# Altium schematic symbol library jlcpcb_2025_04_ferrites_extended_0201.schlib: 64 symbols (part 1 of 2)
Pins are listed as number, name and electrical type; pins without a type are passive.

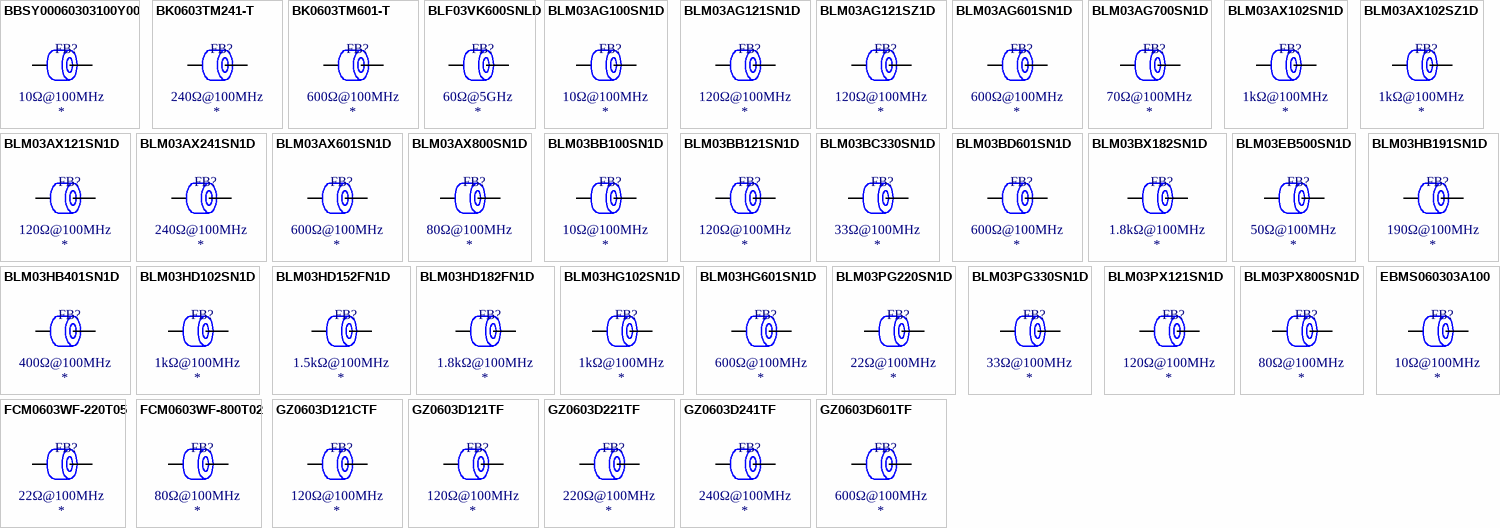
[diagram p0: symbols BBSY00060303100Y00 to GZ0603D601TF]

## BBSY00060303100Y00
designator FB?  Impedance @ Frequency: 10Ω@100MHz
Ferrite, 10Ω@100MHz, ±25%, 100mΩ, 500mA, SMD 0201; Manufacturer: Chilisin Elec; Manufacturer Part Number: BBSY00060303100Y00; Package Size: 0201; JLCPCB Basic Part: No; JLCPCB Part Number: C2847087; Supplier 1: LCSC; Category: Ferrite Beads; Supplier Part Number 1: C2847087; Tolerance: ±25%; Rated Current: 500mA; DC Resistance: 100mΩ; RoHS: Yes; ComponentLink1Description: Datasheet; ComponentLink1URL: https://wmsc.lcsc.com/wmsc/upload/file/pdf/v2/lcsc/2109081230_Chilisin-Elec-BBSY00060303100Y00_C2847087.pdf; ComponentLink2Description: JLCPCB Part URL; ComponentLink2URL: https://jlcpcb.com/partdetail/C2847087; ComponentLink3Description: LCSC Part URL; ComponentLink3URL: https://lcsc.com/product-detail/Ferrite-Beads_Chilisin-Elec-Chilisin-Elec-BBSY00060303100Y00_C2847087.html
footprint FB-0201 (0201 (0603M) Ferrite)
pins: 1, 2

## BK0603TM241-T
designator FB?  Impedance @ Frequency: 240Ω@100MHz
Ferrite, 240Ω@100MHz, ±25%, 0.38Ω, 0.3A, SMD 0201; Manufacturer: Taiyo Yuden; Manufacturer Part Number: BK0603TM241-T; Package Size: 0201; JLCPCB Basic Part: No; JLCPCB Part Number: C2661604; Supplier 1: LCSC; Category: Ferrite Beads; Supplier Part Number 1: C2661604; Tolerance: ±25%; Rated Current: 0.3A; DC Resistance: 0.38Ω; RoHS: Yes; ComponentLink1Description: Datasheet; ComponentLink1URL: https://wmsc.lcsc.com/wmsc/upload/file/pdf/v2/lcsc/2404231024_Taiyo-Yuden-BK0603TM241-T_C2661604.pdf; ComponentLink2Description: JLCPCB Part URL; ComponentLink2URL: https://jlcpcb.com/partdetail/C2661604; ComponentLink3Description: LCSC Part URL; ComponentLink3URL: https://lcsc.com/product-detail/Ferrite-Beads_Taiyo-Yuden-Taiyo-Yuden-BK0603TM241-T_C2661604.html
footprint FB-0201 (0201 (0603M) Ferrite)
pins: 1, 2

## BK0603TM601-T
designator FB?  Impedance @ Frequency: 600Ω@100MHz
Ferrite, 600Ω@100MHz, ±25%, 0.85Ω, 0.25A, SMD 0201; Manufacturer: Taiyo Yuden; Manufacturer Part Number: BK0603TM601-T; Package Size: 0201; JLCPCB Basic Part: No; JLCPCB Part Number: C2661793; Supplier 1: LCSC; Category: Ferrite Beads; Supplier Part Number 1: C2661793; Tolerance: ±25%; Rated Current: 0.25A; DC Resistance: 0.85Ω; RoHS: Yes; ComponentLink1Description: Datasheet; ComponentLink1URL: https://wmsc.lcsc.com/wmsc/upload/file/pdf/v2/lcsc/2404231024_Taiyo-Yuden-BK0603TM601-T_C2661793.pdf; ComponentLink2Description: JLCPCB Part URL; ComponentLink2URL: https://jlcpcb.com/partdetail/C2661793; ComponentLink3Description: LCSC Part URL; ComponentLink3URL: https://lcsc.com/product-detail/Ferrite-Beads_Taiyo-Yuden-Taiyo-Yuden-BK0603TM601-T_C2661793.html
footprint FB-0201 (0201 (0603M) Ferrite)
pins: 1, 2

## BLF03VK600SNLD
designator FB?  Impedance @ Frequency: 60Ω@5GHz
Ferrite, 60Ω@5GHz, ±40%, 65mΩ, 1.2A, SMD 0201; Manufacturer: Murata Electronics; Manufacturer Part Number: BLF03VK600SNLD; Package Size: 0201; JLCPCB Basic Part: No; JLCPCB Part Number: C1857815; Supplier 1: LCSC; Category: Ferrite Beads; Supplier Part Number 1: C1857815; Tolerance: ±40%; Rated Current: 1.2A; DC Resistance: 65mΩ; RoHS: Yes; ComponentLink1Description: Datasheet; ComponentLink1URL: https://wmsc.lcsc.com/wmsc/upload/file/pdf/v2/lcsc/2201100530_Murata-Electronics-BLF03VK600SNLD_C1857815.pdf; ComponentLink2Description: JLCPCB Part URL; ComponentLink2URL: https://jlcpcb.com/partdetail/C1857815; ComponentLink3Description: LCSC Part URL; ComponentLink3URL: https://lcsc.com/product-detail/Ferrite-Beads_Murata-Electronics-Murata-Electronics-BLF03VK600SNLD_C1857815.html
footprint FB-0201 (0201 (0603M) Ferrite)
pins: 1, 2

## BLM03AG100SN1D
designator FB?  Impedance @ Frequency: 10Ω@100MHz
Ferrite, 10Ω@100MHz, 100mΩ, 500mA, SMD 0201; Manufacturer: Murata Electronics; Manufacturer Part Number: BLM03AG100SN1D; Package Size: 0201; JLCPCB Basic Part: No; JLCPCB Part Number: C160962; Supplier 1: LCSC; Category: Ferrite Beads; Supplier Part Number 1: C160962; Rated Current: 500mA; DC Resistance: 100mΩ; RoHS: Yes; ComponentLink1Description: Datasheet; ComponentLink1URL: https://wmsc.lcsc.com/wmsc/upload/file/pdf/v2/lcsc/1811081521_Murata-Electronics-BLM03AG100SN1D_C160962.pdf; ComponentLink2Description: JLCPCB Part URL; ComponentLink2URL: https://jlcpcb.com/partdetail/C160962; ComponentLink3Description: LCSC Part URL; ComponentLink3URL: https://lcsc.com/product-detail/Ferrite-Beads_Murata-Electronics-Murata-Electronics-BLM03AG100SN1D_C160962.html
pins: 1, 2

## BLM03AG121SN1D
designator FB?  Impedance @ Frequency: 120Ω@100MHz
Ferrite, 120Ω@100MHz, ±25%, 500mΩ, 200mA, SMD 0201; Manufacturer: Murata Electronics; Manufacturer Part Number: BLM03AG121SN1D; Package Size: 0201; JLCPCB Basic Part: No; JLCPCB Part Number: C97850; Supplier 1: LCSC; Category: Ferrite Beads; Supplier Part Number 1: C97850; Tolerance: ±25%; Rated Current: 200mA; DC Resistance: 500mΩ; RoHS: Yes; ComponentLink1Description: Datasheet; ComponentLink1URL: https://wmsc.lcsc.com/wmsc/upload/file/pdf/v2/lcsc/1811081516_Murata-Electronics-BLM03AG121SN1D_C97850.pdf; ComponentLink2Description: JLCPCB Part URL; ComponentLink2URL: https://jlcpcb.com/partdetail/C97850; ComponentLink3Description: LCSC Part URL; ComponentLink3URL: https://lcsc.com/product-detail/Ferrite-Beads_Murata-Electronics-Murata-Electronics-BLM03AG121SN1D_C97850.html
footprint FB-0201 (0201 (0603M) Ferrite)
pins: 1, 2

## BLM03AG121SZ1D
designator FB?  Impedance @ Frequency: 120Ω@100MHz
Ferrite, 120Ω@100MHz, ±25%, 500mΩ, 200mA, SMD 0201; Manufacturer: Murata Electronics; Manufacturer Part Number: BLM03AG121SZ1D; Package Size: 0201; JLCPCB Basic Part: No; JLCPCB Part Number: C883543; Supplier 1: LCSC; Category: Ferrite Beads; Supplier Part Number 1: C883543; Tolerance: ±25%; Rated Current: 200mA; DC Resistance: 500mΩ; RoHS: Yes; ComponentLink1Description: Datasheet; ComponentLink1URL: https://wmsc.lcsc.com/wmsc/upload/file/pdf/v2/lcsc/2201242130_Murata-Electronics-BLM03AG121SZ1D_C883543.pdf; ComponentLink2Description: JLCPCB Part URL; ComponentLink2URL: https://jlcpcb.com/partdetail/C883543; ComponentLink3Description: LCSC Part URL; ComponentLink3URL: https://lcsc.com/product-detail/Ferrite-Beads_Murata-Electronics-Murata-Electronics-BLM03AG121SZ1D_C883543.html
footprint FB-0201 (0201 (0603M) Ferrite)
pins: 1, 2

## BLM03AG601SN1D
designator FB?  Impedance @ Frequency: 600Ω@100MHz
Ferrite, 600Ω@100MHz, ±25%, 1.5Ω, 100mA, SMD 0201; Manufacturer: Murata Electronics; Manufacturer Part Number: BLM03AG601SN1D; Package Size: 0201; JLCPCB Basic Part: No; JLCPCB Part Number: C85811; Supplier 1: LCSC; Category: Ferrite Beads; Supplier Part Number 1: C85811; Tolerance: ±25%; Rated Current: 100mA; DC Resistance: 1.5Ω; RoHS: Yes; ComponentLink1Description: Datasheet; ComponentLink1URL: https://wmsc.lcsc.com/wmsc/upload/file/pdf/v2/lcsc/2304140030_Murata-Electronics-BLM03AG601SN1D_C85811.pdf; ComponentLink2Description: JLCPCB Part URL; ComponentLink2URL: https://jlcpcb.com/partdetail/C85811; ComponentLink3Description: LCSC Part URL; ComponentLink3URL: https://lcsc.com/product-detail/Ferrite-Beads_Murata-Electronics-Murata-Electronics-BLM03AG601SN1D_C85811.html
footprint FB-0201 (0201 (0603M) Ferrite)
pins: 1, 2

## BLM03AG700SN1D
designator FB?  Impedance @ Frequency: 70Ω@100MHz
Ferrite, 70Ω@100MHz, 400mΩ, 200mA, SMD 0201; Manufacturer: Murata Electronics; Manufacturer Part Number: BLM03AG700SN1D; Package Size: 0201; JLCPCB Basic Part: No; JLCPCB Part Number: C333977; Supplier 1: LCSC; Category: Ferrite Beads; Supplier Part Number 1: C333977; Rated Current: 200mA; DC Resistance: 400mΩ; RoHS: Yes; ComponentLink1Description: Datasheet; ComponentLink1URL: https://wmsc.lcsc.com/wmsc/upload/file/pdf/v2/lcsc/1912111437_Murata-Electronics-BLM03AG700SN1D_C333977.pdf; ComponentLink2Description: JLCPCB Part URL; ComponentLink2URL: https://jlcpcb.com/partdetail/C333977; ComponentLink3Description: LCSC Part URL; ComponentLink3URL: https://lcsc.com/product-detail/Ferrite-Beads_Murata-Electronics-Murata-Electronics-BLM03AG700SN1D_C333977.html
pins: 1, 2

## BLM03AX102SN1D
designator FB?  Impedance @ Frequency: 1kΩ@100MHz
Ferrite, 1kΩ@100MHz, ±25%, 1.25Ω, 200mA, SMD 0201; Manufacturer: Murata Electronics; Manufacturer Part Number: BLM03AX102SN1D; Package Size: 0201; JLCPCB Basic Part: No; JLCPCB Part Number: C88951; Supplier 1: LCSC; Category: Ferrite Beads; Supplier Part Number 1: C88951; Tolerance: ±25%; Rated Current: 200mA; DC Resistance: 1.25Ω; RoHS: Yes; ComponentLink1Description: Datasheet; ComponentLink1URL: https://wmsc.lcsc.com/wmsc/upload/file/pdf/v2/lcsc/2304140030_Murata-Electronics-BLM03AX102SN1D_C88951.pdf; ComponentLink2Description: JLCPCB Part URL; ComponentLink2URL: https://jlcpcb.com/partdetail/C88951; ComponentLink3Description: LCSC Part URL; ComponentLink3URL: https://lcsc.com/product-detail/Ferrite-Beads_Murata-Electronics-Murata-Electronics-BLM03AX102SN1D_C88951.html
footprint FB-0201 (0201 (0603M) Ferrite)
pins: 1, 2

## BLM03AX102SZ1D
designator FB?  Impedance @ Frequency: 1kΩ@100MHz
Ferrite, 1kΩ@100MHz, ±25%, 1.25Ω, 200mA, SMD 0201; Manufacturer: Murata Electronics; Manufacturer Part Number: BLM03AX102SZ1D; Package Size: 0201; JLCPCB Basic Part: No; JLCPCB Part Number: C2661986; Supplier 1: LCSC; Category: Ferrite Beads; Supplier Part Number 1: C2661986; Tolerance: ±25%; Rated Current: 200mA; DC Resistance: 1.25Ω; RoHS: Yes; ComponentLink1Description: Datasheet; ComponentLink1URL: https://wmsc.lcsc.com/wmsc/upload/file/pdf/v2/lcsc/2202131730_Murata-Electronics-BLM03AX102SZ1D_C2661986.pdf; ComponentLink2Description: JLCPCB Part URL; ComponentLink2URL: https://jlcpcb.com/partdetail/C2661986; ComponentLink3Description: LCSC Part URL; ComponentLink3URL: https://lcsc.com/product-detail/Ferrite-Beads_Murata-Electronics-Murata-Electronics-BLM03AX102SZ1D_C2661986.html
footprint FB-0201 (0201 (0603M) Ferrite)
pins: 1, 2

## BLM03AX121SN1D
designator FB?  Impedance @ Frequency: 120Ω@100MHz
Ferrite, 120Ω@100MHz, ±25%, 230mΩ, 450mA, SMD 0201; Manufacturer: Murata Electronics; Manufacturer Part Number: BLM03AX121SN1D; Package Size: 0201; JLCPCB Basic Part: No; JLCPCB Part Number: C83991; Supplier 1: LCSC; Category: Ferrite Beads; Supplier Part Number 1: C83991; Tolerance: ±25%; Rated Current: 450mA; DC Resistance: 230mΩ; RoHS: Yes; ComponentLink1Description: Datasheet; ComponentLink1URL: https://wmsc.lcsc.com/wmsc/upload/file/pdf/v2/lcsc/2304140030_Murata-Electronics-BLM03AX121SN1D_C83991.pdf; ComponentLink2Description: JLCPCB Part URL; ComponentLink2URL: https://jlcpcb.com/partdetail/C83991; ComponentLink3Description: LCSC Part URL; ComponentLink3URL: https://lcsc.com/product-detail/Ferrite-Beads_Murata-Electronics-Murata-Electronics-BLM03AX121SN1D_C83991.html
footprint FB-0201 (0201 (0603M) Ferrite)
pins: 1, 2

## BLM03AX241SN1D
designator FB?  Impedance @ Frequency: 240Ω@100MHz
Ferrite, 240Ω@100MHz, ±25%, 380mΩ, 350mA, SMD 0201; Manufacturer: Murata Electronics; Manufacturer Part Number: BLM03AX241SN1D; Package Size: 0201; JLCPCB Basic Part: No; JLCPCB Part Number: C88952; Supplier 1: LCSC; Category: Ferrite Beads; Supplier Part Number 1: C88952; Tolerance: ±25%; Rated Current: 350mA; DC Resistance: 380mΩ; RoHS: Yes; ComponentLink1Description: Datasheet; ComponentLink1URL: https://wmsc.lcsc.com/wmsc/upload/file/pdf/v2/lcsc/2304140030_Murata-Electronics-BLM03AX241SN1D_C88952.pdf; ComponentLink2Description: JLCPCB Part URL; ComponentLink2URL: https://jlcpcb.com/partdetail/C88952; ComponentLink3Description: LCSC Part URL; ComponentLink3URL: https://lcsc.com/product-detail/Ferrite-Beads_Murata-Electronics-Murata-Electronics-BLM03AX241SN1D_C88952.html
footprint FB-0201 (0201 (0603M) Ferrite)
pins: 1, 2

## BLM03AX601SN1D
designator FB?  Impedance @ Frequency: 600Ω@100MHz
Ferrite, 600Ω@100MHz, ±25%, 850mΩ, 250mA, SMD 0201; Manufacturer: Murata Electronics; Manufacturer Part Number: BLM03AX601SN1D; Package Size: 0201; JLCPCB Basic Part: No; JLCPCB Part Number: C88953; Supplier 1: LCSC; Category: Ferrite Beads; Supplier Part Number 1: C88953; Tolerance: ±25%; Rated Current: 250mA; DC Resistance: 850mΩ; RoHS: Yes; ComponentLink1Description: Datasheet; ComponentLink1URL: https://wmsc.lcsc.com/wmsc/upload/file/pdf/v2/lcsc/2304140030_Murata-Electronics-BLM03AX601SN1D_C88953.pdf; ComponentLink2Description: JLCPCB Part URL; ComponentLink2URL: https://jlcpcb.com/partdetail/C88953; ComponentLink3Description: LCSC Part URL; ComponentLink3URL: https://lcsc.com/product-detail/Ferrite-Beads_Murata-Electronics-Murata-Electronics-BLM03AX601SN1D_C88953.html
footprint FB-0201 (0201 (0603M) Ferrite)
pins: 1, 2

## BLM03AX800SN1D
designator FB?  Impedance @ Frequency: 80Ω@100MHz
Ferrite, 80Ω@100MHz, ±25%, 180mΩ, 500mA, SMD 0201; Manufacturer: Murata Electronics; Manufacturer Part Number: BLM03AX800SN1D; Package Size: 0201; JLCPCB Basic Part: No; JLCPCB Part Number: C521135; Supplier 1: LCSC; Category: Ferrite Beads; Supplier Part Number 1: C521135; Tolerance: ±25%; Rated Current: 500mA; DC Resistance: 180mΩ; RoHS: Yes; ComponentLink1Description: Datasheet; ComponentLink1URL: https://wmsc.lcsc.com/wmsc/upload/file/pdf/v2/lcsc/2304140030_Murata-Electronics-BLM03AX800SN1D_C521135.pdf; ComponentLink2Description: JLCPCB Part URL; ComponentLink2URL: https://jlcpcb.com/partdetail/C521135; ComponentLink3Description: LCSC Part URL; ComponentLink3URL: https://lcsc.com/product-detail/Ferrite-Beads_Murata-Electronics-Murata-Electronics-BLM03AX800SN1D_C521135.html
footprint FB-0201 (0201 (0603M) Ferrite)
pins: 1, 2

## BLM03BB100SN1D
designator FB?  Impedance @ Frequency: 10Ω@100MHz
Ferrite, 10Ω@100MHz, ±25%, 400mΩ, 300mA, SMD 0201; Manufacturer: Murata Electronics; Manufacturer Part Number: BLM03BB100SN1D; Package Size: 0201; JLCPCB Basic Part: No; JLCPCB Part Number: C160963; Supplier 1: LCSC; Category: Ferrite Beads; Supplier Part Number 1: C160963; Tolerance: ±25%; Rated Current: 300mA; DC Resistance: 400mΩ; RoHS: Yes; ComponentLink1Description: Datasheet; ComponentLink1URL: https://wmsc.lcsc.com/wmsc/upload/file/pdf/v2/lcsc/1811081543_Murata-Electronics-BLM03BB100SN1D_C160963.pdf; ComponentLink2Description: JLCPCB Part URL; ComponentLink2URL: https://jlcpcb.com/partdetail/C160963; ComponentLink3Description: LCSC Part URL; ComponentLink3URL: https://lcsc.com/product-detail/Ferrite-Beads_Murata-Electronics-Murata-Electronics-BLM03BB100SN1D_C160963.html
footprint FB-0201 (0201 (0603M) Ferrite)
pins: 1, 2

## BLM03BB121SN1D
designator FB?  Impedance @ Frequency: 120Ω@100MHz
Ferrite, 120Ω@100MHz, ±25%, 1.5Ω, 100mA, SMD 0201; Manufacturer: Murata Electronics; Manufacturer Part Number: BLM03BB121SN1D; Package Size: 0201; JLCPCB Basic Part: No; JLCPCB Part Number: C160964; Supplier 1: LCSC; Category: Ferrite Beads; Supplier Part Number 1: C160964; Tolerance: ±25%; Rated Current: 100mA; DC Resistance: 1.5Ω; RoHS: Yes; ComponentLink1Description: Datasheet; ComponentLink1URL: https://wmsc.lcsc.com/wmsc/upload/file/pdf/v2/lcsc/1811081524_Murata-Electronics-BLM03BB121SN1D_C160964.pdf; ComponentLink2Description: JLCPCB Part URL; ComponentLink2URL: https://jlcpcb.com/partdetail/C160964; ComponentLink3Description: LCSC Part URL; ComponentLink3URL: https://lcsc.com/product-detail/Ferrite-Beads_Murata-Electronics-Murata-Electronics-BLM03BB121SN1D_C160964.html
footprint FB-0201 (0201 (0603M) Ferrite)
pins: 1, 2

## BLM03BC330SN1D
designator FB?  Impedance @ Frequency: 33Ω@100MHz
Ferrite, 33Ω@100MHz, ±25%, 850mΩ, 150mA, SMD 0201; Manufacturer: Murata Electronics; Manufacturer Part Number: BLM03BC330SN1D; Package Size: 0201; JLCPCB Basic Part: No; JLCPCB Part Number: C701281; Supplier 1: LCSC; Category: Ferrite Beads; Supplier Part Number 1: C701281; Tolerance: ±25%; Rated Current: 150mA; DC Resistance: 850mΩ; RoHS: Yes; ComponentLink1Description: Datasheet; ComponentLink1URL: https://wmsc.lcsc.com/wmsc/upload/file/pdf/v2/lcsc/2304140030_Murata-Electronics-BLM03BC330SN1D_C701281.pdf; ComponentLink2Description: JLCPCB Part URL; ComponentLink2URL: https://jlcpcb.com/partdetail/C701281; ComponentLink3Description: LCSC Part URL; ComponentLink3URL: https://lcsc.com/product-detail/Ferrite-Beads_Murata-Electronics-Murata-Electronics-BLM03BC330SN1D_C701281.html
footprint FB-0201 (0201 (0603M) Ferrite)
pins: 1, 2

## BLM03BD601SN1D
designator FB?  Impedance @ Frequency: 600Ω@100MHz
Ferrite, 600Ω@100MHz, ±25%, 1.7Ω, 200mA, SMD 0201; Manufacturer: Murata Electronics; Manufacturer Part Number: BLM03BD601SN1D; Package Size: 0201; JLCPCB Basic Part: No; JLCPCB Part Number: C88956; Supplier 1: LCSC; Category: Ferrite Beads; Supplier Part Number 1: C88956; Tolerance: ±25%; Rated Current: 200mA; DC Resistance: 1.7Ω; RoHS: Yes; ComponentLink1Description: Datasheet; ComponentLink1URL: https://wmsc.lcsc.com/wmsc/upload/file/pdf/v2/lcsc/2304140030_Murata-Electronics-BLM03BD601SN1D_C88956.pdf; ComponentLink2Description: JLCPCB Part URL; ComponentLink2URL: https://jlcpcb.com/partdetail/C88956; ComponentLink3Description: LCSC Part URL; ComponentLink3URL: https://lcsc.com/product-detail/Ferrite-Beads_Murata-Electronics-Murata-Electronics-BLM03BD601SN1D_C88956.html
footprint FB-0201 (0201 (0603M) Ferrite)
pins: 1, 2

## BLM03BX182SN1D
designator FB?  Impedance @ Frequency: 1.8kΩ@100MHz
Ferrite, 1.8kΩ@100MHz, ±25%, 2.5Ω, 140mA, SMD 0201; Manufacturer: Murata Electronics; Manufacturer Part Number: BLM03BX182SN1D; Package Size: 0201; JLCPCB Basic Part: No; JLCPCB Part Number: C710322; Supplier 1: LCSC; Category: Ferrite Beads; Supplier Part Number 1: C710322; Tolerance: ±25%; Rated Current: 140mA; DC Resistance: 2.5Ω; RoHS: Yes; ComponentLink1Description: Datasheet; ComponentLink1URL: https://wmsc.lcsc.com/wmsc/upload/file/pdf/v2/lcsc/2201131100_Murata-Electronics-BLM03BX182SN1D_C710322.pdf; ComponentLink2Description: JLCPCB Part URL; ComponentLink2URL: https://jlcpcb.com/partdetail/C710322; ComponentLink3Description: LCSC Part URL; ComponentLink3URL: https://lcsc.com/product-detail/Ferrite-Beads_Murata-Electronics-Murata-Electronics-BLM03BX182SN1D_C710322.html
footprint FB-0201 (0201 (0603M) Ferrite)
pins: 1, 2

## BLM03EB500SN1D
designator FB?  Impedance @ Frequency: 50Ω@100MHz
Ferrite, 50Ω@100MHz, ±25%, 580mΩ, 400mA, SMD 0201; Manufacturer: Murata Electronics; Manufacturer Part Number: BLM03EB500SN1D; Package Size: 0201; JLCPCB Basic Part: No; JLCPCB Part Number: C88957; Supplier 1: LCSC; Category: Ferrite Beads; Supplier Part Number 1: C88957; Tolerance: ±25%; Rated Current: 400mA; DC Resistance: 580mΩ; RoHS: Yes; ComponentLink1Description: Datasheet; ComponentLink1URL: https://wmsc.lcsc.com/wmsc/upload/file/pdf/v2/lcsc/2304140030_Murata-Electronics-BLM03EB500SN1D_C88957.pdf; ComponentLink2Description: JLCPCB Part URL; ComponentLink2URL: https://jlcpcb.com/partdetail/C88957; ComponentLink3Description: LCSC Part URL; ComponentLink3URL: https://lcsc.com/product-detail/Ferrite-Beads_Murata-Electronics-Murata-Electronics-BLM03EB500SN1D_C88957.html
footprint FB-0201 (0201 (0603M) Ferrite)
pins: 1, 2

## BLM03HB191SN1D
designator FB?  Impedance @ Frequency: 190Ω@100MHz
Ferrite, 190Ω@100MHz, 2Ω, SMD 0201; Manufacturer: Murata Electronics; Manufacturer Part Number: BLM03HB191SN1D; Package Size: 0201; JLCPCB Basic Part: No; JLCPCB Part Number: C703142; Supplier 1: LCSC; Category: Ferrite Beads; Supplier Part Number 1: C703142; DC Resistance: 2Ω; RoHS: Yes; ComponentLink1Description: Datasheet; ComponentLink1URL: https://wmsc.lcsc.com/wmsc/upload/file/pdf/v2/lcsc/2308111441_Murata-Electronics-BLM03HB191SN1D_C703142.pdf; ComponentLink2Description: JLCPCB Part URL; ComponentLink2URL: https://jlcpcb.com/partdetail/C703142; ComponentLink3Description: LCSC Part URL; ComponentLink3URL: https://lcsc.com/product-detail/Ferrite-Beads_Murata-Electronics-Murata-Electronics-BLM03HB191SN1D_C703142.html
pins: 1, 2

## BLM03HB401SN1D
designator FB?  Impedance @ Frequency: 400Ω@100MHz
Ferrite, 400Ω@100MHz, ±25%, 2.8Ω, 125mA, SMD 0201; Manufacturer: Murata Electronics; Manufacturer Part Number: BLM03HB401SN1D; Package Size: 0201; JLCPCB Basic Part: No; JLCPCB Part Number: C2988755; Supplier 1: LCSC; Category: Ferrite Beads; Supplier Part Number 1: C2988755; Tolerance: ±25%; Rated Current: 125mA; DC Resistance: 2.8Ω; RoHS: Yes; ComponentLink1Description: Datasheet; ComponentLink1URL: https://wmsc.lcsc.com/wmsc/upload/file/pdf/v2/lcsc/2204211115_Murata-Electronics-BLM03HB401SN1D_C2988755.pdf; ComponentLink2Description: JLCPCB Part URL; ComponentLink2URL: https://jlcpcb.com/partdetail/C2988755; ComponentLink3Description: LCSC Part URL; ComponentLink3URL: https://lcsc.com/product-detail/Ferrite-Beads_Murata-Electronics-Murata-Electronics-BLM03HB401SN1D_C2988755.html
footprint FB-0201 (0201 (0603M) Ferrite)
pins: 1, 2

## BLM03HD102SN1D
designator FB?  Impedance @ Frequency: 1kΩ@100MHz
Ferrite, 1kΩ@100MHz, ±25%, 2.9Ω, 120mA, SMD 0201; Manufacturer: Murata Electronics; Manufacturer Part Number: BLM03HD102SN1D; Package Size: 0201; JLCPCB Basic Part: No; JLCPCB Part Number: C88958; Supplier 1: LCSC; Category: Ferrite Beads; Supplier Part Number 1: C88958; Tolerance: ±25%; Rated Current: 120mA; DC Resistance: 2.9Ω; RoHS: Yes; ComponentLink1Description: Datasheet; ComponentLink1URL: https://wmsc.lcsc.com/wmsc/upload/file/pdf/v2/lcsc/2304140030_Murata-Electronics-BLM03HD102SN1D_C88958.pdf; ComponentLink2Description: JLCPCB Part URL; ComponentLink2URL: https://jlcpcb.com/partdetail/C88958; ComponentLink3Description: LCSC Part URL; ComponentLink3URL: https://lcsc.com/product-detail/Ferrite-Beads_Murata-Electronics-Murata-Electronics-BLM03HD102SN1D_C88958.html
footprint FB-0201 (0201 (0603M) Ferrite)
pins: 1, 2

## BLM03HD152FN1D
designator FB?  Impedance @ Frequency: 1.5kΩ@100MHz
Ferrite, 1.5kΩ@100MHz, ±25%, 3.1Ω, 120mA, SMD 0201; Manufacturer: Murata Electronics; Manufacturer Part Number: BLM03HD152FN1D; Package Size: 0201; JLCPCB Basic Part: No; JLCPCB Part Number: C2895361; Supplier 1: LCSC; Category: Ferrite Beads; Supplier Part Number 1: C2895361; Tolerance: ±25%; Rated Current: 120mA; DC Resistance: 3.1Ω; RoHS: Yes; ComponentLink1Description: Datasheet; ComponentLink1URL: https://wmsc.lcsc.com/wmsc/upload/file/pdf/v2/lcsc/2109101930_Murata-Electronics-BLM03HD152FN1D_C2895361.pdf; ComponentLink2Description: JLCPCB Part URL; ComponentLink2URL: https://jlcpcb.com/partdetail/C2895361; ComponentLink3Description: LCSC Part URL; ComponentLink3URL: https://lcsc.com/product-detail/Ferrite-Beads_Murata-Electronics-Murata-Electronics-BLM03HD152FN1D_C2895361.html
footprint FB-0201 (0201 (0603M) Ferrite)
pins: 1, 2

## BLM03HD182FN1D
designator FB?  Impedance @ Frequency: 1.8kΩ@100MHz
Ferrite, 1.8kΩ@100MHz, ±25%, 3.8Ω, 100mA, SMD 0201; Manufacturer: Murata Electronics; Manufacturer Part Number: BLM03HD182FN1D; Package Size: 0201; JLCPCB Basic Part: No; JLCPCB Part Number: C560061; Supplier 1: LCSC; Category: Ferrite Beads; Supplier Part Number 1: C560061; Tolerance: ±25%; Rated Current: 100mA; DC Resistance: 3.8Ω; RoHS: Yes; ComponentLink1Description: Datasheet; ComponentLink1URL: https://wmsc.lcsc.com/wmsc/upload/file/pdf/v2/lcsc/2304140030_Murata-Electronics-BLM03HD182FN1D_C560061.pdf; ComponentLink2Description: JLCPCB Part URL; ComponentLink2URL: https://jlcpcb.com/partdetail/C560061; ComponentLink3Description: LCSC Part URL; ComponentLink3URL: https://lcsc.com/product-detail/Ferrite-Beads_Murata-Electronics-Murata-Electronics-BLM03HD182FN1D_C560061.html
footprint FB-0201 (0201 (0603M) Ferrite)
pins: 1, 2

## BLM03HG102SN1D
designator FB?  Impedance @ Frequency: 1kΩ@100MHz
Ferrite, 1kΩ@100MHz, ±25%, 2.6Ω, 125mA, SMD 0201; Manufacturer: Murata Electronics; Manufacturer Part Number: BLM03HG102SN1D; Package Size: 0201; JLCPCB Basic Part: No; JLCPCB Part Number: C160965; Supplier 1: LCSC; Category: Ferrite Beads; Supplier Part Number 1: C160965; Tolerance: ±25%; Rated Current: 125mA; DC Resistance: 2.6Ω; RoHS: Yes; ComponentLink1Description: Datasheet; ComponentLink1URL: https://wmsc.lcsc.com/wmsc/upload/file/pdf/v2/lcsc/2304140030_Murata-Electronics-BLM03HG102SN1D_C160965.pdf; ComponentLink2Description: JLCPCB Part URL; ComponentLink2URL: https://jlcpcb.com/partdetail/C160965; ComponentLink3Description: LCSC Part URL; ComponentLink3URL: https://lcsc.com/product-detail/Ferrite-Beads_Murata-Electronics-Murata-Electronics-BLM03HG102SN1D_C160965.html
footprint FB-0201 (0201 (0603M) Ferrite)
pins: 1, 2

## BLM03HG601SN1D
designator FB?  Impedance @ Frequency: 600Ω@100MHz
Ferrite, 600Ω@100MHz, ±25%, 1.6Ω, 150mA, SMD 0201; Manufacturer: Murata Electronics; Manufacturer Part Number: BLM03HG601SN1D; Package Size: 0201; JLCPCB Basic Part: No; JLCPCB Part Number: C88960; Supplier 1: LCSC; Category: Ferrite Beads; Supplier Part Number 1: C88960; Tolerance: ±25%; Rated Current: 150mA; DC Resistance: 1.6Ω; RoHS: Yes; ComponentLink1Description: Datasheet; ComponentLink1URL: https://wmsc.lcsc.com/wmsc/upload/file/pdf/v2/lcsc/2304140030_Murata-Electronics-BLM03HG601SN1D_C88960.pdf; ComponentLink2Description: JLCPCB Part URL; ComponentLink2URL: https://jlcpcb.com/partdetail/C88960; ComponentLink3Description: LCSC Part URL; ComponentLink3URL: https://lcsc.com/product-detail/Ferrite-Beads_Murata-Electronics-Murata-Electronics-BLM03HG601SN1D_C88960.html
footprint FB-0201 (0201 (0603M) Ferrite)
pins: 1, 2

## BLM03PG220SN1D
designator FB?  Impedance @ Frequency: 22Ω@100MHz
Ferrite, 22Ω@100MHz, ±25%, 65mΩ, 900mA, SMD 0201; Manufacturer: Murata Electronics; Manufacturer Part Number: BLM03PG220SN1D; Package Size: 0201; JLCPCB Basic Part: No; JLCPCB Part Number: C710324; Supplier 1: LCSC; Category: Ferrite Beads; Supplier Part Number 1: C710324; Tolerance: ±25%; Rated Current: 900mA; DC Resistance: 65mΩ; RoHS: Yes; ComponentLink1Description: Datasheet; ComponentLink1URL: https://wmsc.lcsc.com/wmsc/upload/file/pdf/v2/lcsc/2304140030_Murata-Electronics-BLM03PG220SN1D_C710324.pdf; ComponentLink2Description: JLCPCB Part URL; ComponentLink2URL: https://jlcpcb.com/partdetail/C710324; ComponentLink3Description: LCSC Part URL; ComponentLink3URL: https://lcsc.com/product-detail/Ferrite-Beads_Murata-Electronics-Murata-Electronics-BLM03PG220SN1D_C710324.html
footprint FB-0201 (0201 (0603M) Ferrite)
pins: 1, 2

## BLM03PG330SN1D
designator FB?  Impedance @ Frequency: 33Ω@100MHz
Ferrite, 33Ω@100MHz, ±25%, 90mΩ, 750mA, SMD 0201; Manufacturer: Murata Electronics; Manufacturer Part Number: BLM03PG330SN1D; Package Size: 0201; JLCPCB Basic Part: No; JLCPCB Part Number: C160966; Supplier 1: LCSC; Category: Ferrite Beads; Supplier Part Number 1: C160966; Tolerance: ±25%; Rated Current: 750mA; DC Resistance: 90mΩ; RoHS: Yes; ComponentLink1Description: Datasheet; ComponentLink1URL: https://wmsc.lcsc.com/wmsc/upload/file/pdf/v2/lcsc/1811081532_Murata-Electronics-BLM03PG330SN1D_C160966.pdf; ComponentLink2Description: JLCPCB Part URL; ComponentLink2URL: https://jlcpcb.com/partdetail/C160966; ComponentLink3Description: LCSC Part URL; ComponentLink3URL: https://lcsc.com/product-detail/Ferrite-Beads_Murata-Electronics-Murata-Electronics-BLM03PG330SN1D_C160966.html
footprint FB-0201 (0201 (0603M) Ferrite)
pins: 1, 2

## BLM03PX121SN1D
designator FB?  Impedance @ Frequency: 120Ω@100MHz
Ferrite, 120Ω@100MHz, ±25%, 160mΩ, 700mA, SMD 0201; Manufacturer: Murata Electronics; Manufacturer Part Number: BLM03PX121SN1D; Package Size: 0201; JLCPCB Basic Part: No; JLCPCB Part Number: C525479; Supplier 1: LCSC; Category: Ferrite Beads; Supplier Part Number 1: C525479; Tolerance: ±25%; Rated Current: 700mA; DC Resistance: 160mΩ; RoHS: Yes; ComponentLink1Description: Datasheet; ComponentLink1URL: https://wmsc.lcsc.com/wmsc/upload/file/pdf/v2/lcsc/2304140030_Murata-Electronics-BLM03PX121SN1D_C525479.pdf; ComponentLink2Description: JLCPCB Part URL; ComponentLink2URL: https://jlcpcb.com/partdetail/C525479; ComponentLink3Description: LCSC Part URL; ComponentLink3URL: https://lcsc.com/product-detail/Ferrite-Beads_Murata-Electronics-Murata-Electronics-BLM03PX121SN1D_C525479.html
footprint FB-0201 (0201 (0603M) Ferrite)
pins: 1, 2

## BLM03PX800SN1D
designator FB?  Impedance @ Frequency: 80Ω@100MHz
Ferrite, 80Ω@100MHz, ±25%, 130mΩ, 1A, SMD 0201; Manufacturer: Murata Electronics; Manufacturer Part Number: BLM03PX800SN1D; Package Size: 0201; JLCPCB Basic Part: No; JLCPCB Part Number: C710325; Supplier 1: LCSC; Category: Ferrite Beads; Supplier Part Number 1: C710325; Tolerance: ±25%; Rated Current: 1A; DC Resistance: 130mΩ; RoHS: Yes; ComponentLink1Description: Datasheet; ComponentLink1URL: https://wmsc.lcsc.com/wmsc/upload/file/pdf/v2/lcsc/2304140030_Murata-Electronics-BLM03PX800SN1D_C710325.pdf; ComponentLink2Description: JLCPCB Part URL; ComponentLink2URL: https://jlcpcb.com/partdetail/C710325; ComponentLink3Description: LCSC Part URL; ComponentLink3URL: https://lcsc.com/product-detail/Ferrite-Beads_Murata-Electronics-Murata-Electronics-BLM03PX800SN1D_C710325.html
footprint FB-0201 (0201 (0603M) Ferrite)
pins: 1, 2

## EBMS060303A100
designator FB?  Impedance @ Frequency: 10Ω@100MHz
Ferrite, 10Ω@100MHz, ±25%, SMD 0201; Manufacturer: HYHONGYEX; Manufacturer Part Number: EBMS060303A100; Package Size: 0201; JLCPCB Basic Part: No; JLCPCB Part Number: C963828; Supplier 1: LCSC; Category: Ferrite Beads; Supplier Part Number 1: C963828; Tolerance: ±25%; RoHS: Yes; ComponentLink1Description: Datasheet; ComponentLink1URL: https://wmsc.lcsc.com/wmsc/upload/file/pdf/v2/lcsc/2304140030_HYHONGYEX-EBMS060303A100_C963828.pdf; ComponentLink2Description: JLCPCB Part URL; ComponentLink2URL: https://jlcpcb.com/partdetail/C963828; ComponentLink3Description: LCSC Part URL; ComponentLink3URL: https://lcsc.com/product-detail/Ferrite-Beads_HYHONGYEX-HYHONGYEX-EBMS060303A100_C963828.html
pins: 1, 2

## FCM0603WF-220T05
designator FB?  Impedance @ Frequency: 22Ω@100MHz
Ferrite, 22Ω@100MHz, ±25%, 65mΩ, 500mA, SMD 0201; Manufacturer: TAI-TECH; Manufacturer Part Number: FCM0603WF-220T05; Package Size: 0201; JLCPCB Basic Part: No; JLCPCB Part Number: C155036; Supplier 1: LCSC; Category: Ferrite Beads; Supplier Part Number 1: C155036; Tolerance: ±25%; Rated Current: 500mA; DC Resistance: 65mΩ; RoHS: Yes; ComponentLink1Description: Datasheet; ComponentLink1URL: https://wmsc.lcsc.com/wmsc/upload/file/pdf/v2/lcsc/2009171305_TAI-TECH-FCM0603WF-220T05_C155036.pdf; ComponentLink2Description: JLCPCB Part URL; ComponentLink2URL: https://jlcpcb.com/partdetail/C155036; ComponentLink3Description: LCSC Part URL; ComponentLink3URL: https://lcsc.com/product-detail/Ferrite-Beads_TAI-TECH-TAI-TECH-FCM0603WF-220T05_C155036.html
footprint FB-0201 (0201 (0603M) Ferrite)
pins: 1, 2

## FCM0603WF-800T02
designator FB?  Impedance @ Frequency: 80Ω@100MHz
Ferrite, 80Ω@100MHz, ±25%, 400mΩ, 200mA, SMD 0201; Manufacturer: TAI-TECH; Manufacturer Part Number: FCM0603WF-800T02; Package Size: 0201; JLCPCB Basic Part: No; JLCPCB Part Number: C155040; Supplier 1: LCSC; Category: Ferrite Beads; Supplier Part Number 1: C155040; Tolerance: ±25%; Rated Current: 200mA; DC Resistance: 400mΩ; RoHS: Yes; ComponentLink1Description: Datasheet; ComponentLink1URL: https://wmsc.lcsc.com/wmsc/upload/file/pdf/v2/lcsc/2009171306_TAI-TECH-FCM0603WF-800T02_C155040.pdf; ComponentLink2Description: JLCPCB Part URL; ComponentLink2URL: https://jlcpcb.com/partdetail/C155040; ComponentLink3Description: LCSC Part URL; ComponentLink3URL: https://lcsc.com/product-detail/Ferrite-Beads_TAI-TECH-TAI-TECH-FCM0603WF-800T02_C155040.html
footprint FB-0201 (0201 (0603M) Ferrite)
pins: 1, 2

## GZ0603D121CTF
designator FB?  Impedance @ Frequency: 120Ω@100MHz
Ferrite, 120Ω@100MHz, ±25%, 0.5Ω, 0.2A, SMD 0201; Manufacturer: TAI-TECH; Manufacturer Part Number: GZ0603D121CTF; Package Size: 0201; JLCPCB Basic Part: No; JLCPCB Part Number: C2932310; Supplier 1: LCSC; Category: Ferrite Beads; Supplier Part Number 1: C2932310; Tolerance: ±25%; Rated Current: 0.2A; DC Resistance: 0.5Ω; RoHS: Yes; ComponentLink1Description: Datasheet; ComponentLink1URL: https://wmsc.lcsc.com/wmsc/upload/file/pdf/v2/lcsc/2201121530_TAI-TECH-GZ0603D121CTF_C2932310.pdf; ComponentLink2Description: JLCPCB Part URL; ComponentLink2URL: https://jlcpcb.com/partdetail/C2932310; ComponentLink3Description: LCSC Part URL; ComponentLink3URL: https://lcsc.com/product-detail/Ferrite-Beads_TAI-TECH-TAI-TECH-GZ0603D121CTF_C2932310.html
footprint FB-0201 (0201 (0603M) Ferrite)
pins: 1, 2

## GZ0603D121TF
designator FB?  Impedance @ Frequency: 120Ω@100MHz
Ferrite, 120Ω@100MHz, ±25%, 800mΩ, 200mA, SMD 0201; Manufacturer: Sunlord; Manufacturer Part Number: GZ0603D121TF; Package Size: 0201; JLCPCB Basic Part: No; JLCPCB Part Number: C95891; Supplier 1: LCSC; Category: Ferrite Beads; Supplier Part Number 1: C95891; Tolerance: ±25%; Rated Current: 200mA; DC Resistance: 800mΩ; RoHS: Yes; ComponentLink1Description: Datasheet; ComponentLink1URL: https://wmsc.lcsc.com/wmsc/upload/file/pdf/v2/lcsc/2310301640_Sunlord-GZ0603D121TF_C95891.pdf; ComponentLink2Description: JLCPCB Part URL; ComponentLink2URL: https://jlcpcb.com/partdetail/C95891; ComponentLink3Description: LCSC Part URL; ComponentLink3URL: https://lcsc.com/product-detail/Ferrite-Beads_Sunlord-Sunlord-GZ0603D121TF_C95891.html
footprint FB-0201 (0201 (0603M) Ferrite)
pins: 1, 2

## GZ0603D221TF
designator FB?  Impedance @ Frequency: 220Ω@100MHz
Ferrite, 220Ω@100MHz, ±25%, SMD 0201; Manufacturer: Sunlord; Manufacturer Part Number: GZ0603D221TF; Package Size: 0201; JLCPCB Basic Part: No; JLCPCB Part Number: C185895; Supplier 1: LCSC; Category: Ferrite Beads; Supplier Part Number 1: C185895; Tolerance: ±25%; RoHS: Yes; ComponentLink1Description: Datasheet; ComponentLink1URL: https://wmsc.lcsc.com/wmsc/upload/file/pdf/v2/lcsc/2310301640_Sunlord-GZ0603D221TF_C185895.pdf; ComponentLink2Description: JLCPCB Part URL; ComponentLink2URL: https://jlcpcb.com/partdetail/C185895; ComponentLink3Description: LCSC Part URL; ComponentLink3URL: https://lcsc.com/product-detail/Ferrite-Beads_Sunlord-Sunlord-GZ0603D221TF_C185895.html
pins: 1, 2

## GZ0603D241TF
designator FB?  Impedance @ Frequency: 240Ω@100MHz
Ferrite, 240Ω@100MHz, ±25%, 1Ω, 200mA, SMD 0201; Manufacturer: Sunlord; Manufacturer Part Number: GZ0603D241TF; Package Size: 0201; JLCPCB Basic Part: No; JLCPCB Part Number: C95892; Supplier 1: LCSC; Category: Ferrite Beads; Supplier Part Number 1: C95892; Tolerance: ±25%; Rated Current: 200mA; DC Resistance: 1Ω; RoHS: Yes; ComponentLink1Description: Datasheet; ComponentLink1URL: https://wmsc.lcsc.com/wmsc/upload/file/pdf/v2/lcsc/2310301640_Sunlord-GZ0603D241TF_C95892.pdf; ComponentLink2Description: JLCPCB Part URL; ComponentLink2URL: https://jlcpcb.com/partdetail/C95892; ComponentLink3Description: LCSC Part URL; ComponentLink3URL: https://lcsc.com/product-detail/Ferrite-Beads_Sunlord-Sunlord-GZ0603D241TF_C95892.html
footprint FB-0201 (0201 (0603M) Ferrite)
pins: 1, 2

## GZ0603D601TF
designator FB?  Impedance @ Frequency: 600Ω@100MHz
Ferrite, 600Ω@100MHz, ±25%, 1.7Ω, 200mA, SMD 0201; Manufacturer: Sunlord; Manufacturer Part Number: GZ0603D601TF; Package Size: 0201; JLCPCB Basic Part: No; JLCPCB Part Number: C95893; Supplier 1: LCSC; Category: Ferrite Beads; Supplier Part Number 1: C95893; Tolerance: ±25%; Rated Current: 200mA; DC Resistance: 1.7Ω; RoHS: Yes; ComponentLink1Description: Datasheet; ComponentLink1URL: https://wmsc.lcsc.com/wmsc/upload/file/pdf/v2/lcsc/2310301640_Sunlord-GZ0603D601TF_C95893.pdf; ComponentLink2Description: JLCPCB Part URL; ComponentLink2URL: https://jlcpcb.com/partdetail/C95893; ComponentLink3Description: LCSC Part URL; ComponentLink3URL: https://lcsc.com/product-detail/Ferrite-Beads_Sunlord-Sunlord-GZ0603D601TF_C95893.html
footprint FB-0201 (0201 (0603M) Ferrite)
pins: 1, 2

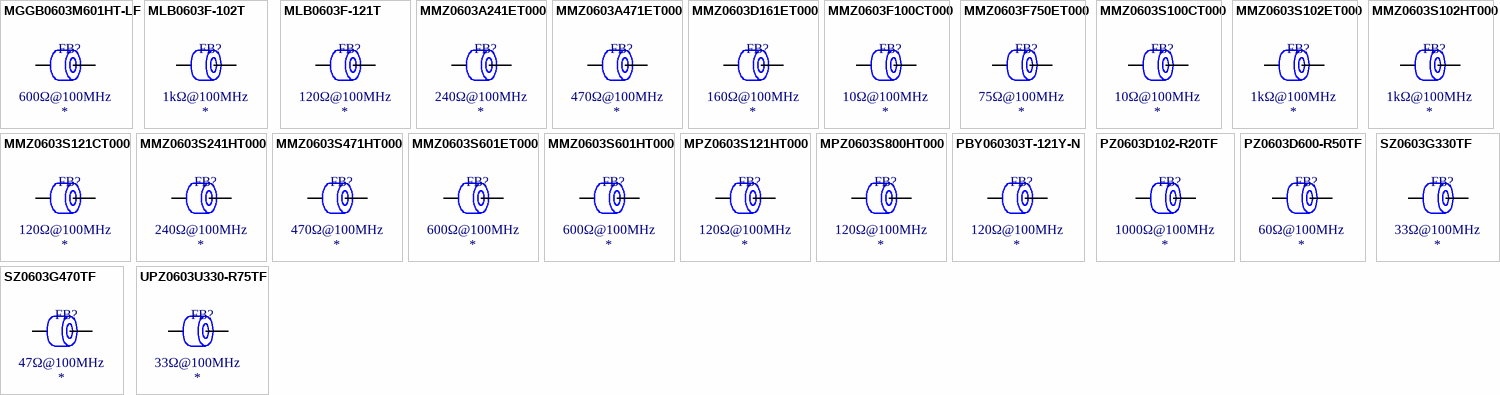
[diagram p1: symbols MGGB0603M601HT-LF to UPZ0603U330-R75TF]

## MGGB0603M601HT-LF
designator FB?  Impedance @ Frequency: 600Ω@100MHz
Ferrite, 600Ω@100MHz, ±25%, 1.75Ω, 100mA, SMD 0201; Manufacturer: microgate; Manufacturer Part Number: MGGB0603M601HT-LF; Package Size: 0201; JLCPCB Basic Part: No; JLCPCB Part Number: C281123; Supplier 1: LCSC; Category: Ferrite Beads; Supplier Part Number 1: C281123; Tolerance: ±25%; Rated Current: 100mA; DC Resistance: 1.75Ω; RoHS: Yes; ComponentLink1Description: Datasheet; ComponentLink1URL: https://wmsc.lcsc.com/wmsc/upload/file/pdf/v2/lcsc/2304140030_microgate-MGGB0603M601HT-LF_C281123.pdf; ComponentLink2Description: JLCPCB Part URL; ComponentLink2URL: https://jlcpcb.com/partdetail/C281123; ComponentLink3Description: LCSC Part URL; ComponentLink3URL: https://lcsc.com/product-detail/Ferrite-Beads_microgate-microgate-MGGB0603M601HT-LF_C281123.html
footprint FB-0201 (0201 (0603M) Ferrite)
pins: 1, 2

## MLB0603F-102T
designator FB?  Impedance @ Frequency: 1kΩ@100MHz
Ferrite, 1kΩ@100MHz, ±25%, SMD 0201; Manufacturer: Meled; Manufacturer Part Number: MLB0603F-102T; Package Size: 0201; JLCPCB Basic Part: No; JLCPCB Part Number: C2844525; Supplier 1: LCSC; Category: Ferrite Beads; Supplier Part Number 1: C2844525; Tolerance: ±25%; RoHS: Yes; ComponentLink1Description: Datasheet; ComponentLink1URL: https://wmsc.lcsc.com/wmsc/upload/file/pdf/v2/lcsc/2306021141_MetalLions-MLB0603F-102T_C2844525.pdf; ComponentLink2Description: JLCPCB Part URL; ComponentLink2URL: https://jlcpcb.com/partdetail/C2844525; ComponentLink3Description: LCSC Part URL; ComponentLink3URL: https://lcsc.com/product-detail/Ferrite-Beads_MetalLions-MetalLions-MLB0603F-102T_C2844525.html
pins: 1, 2

## MLB0603F-121T
designator FB?  Impedance @ Frequency: 120Ω@100MHz
Ferrite, 120Ω@100MHz, ±25%, 800mΩ, 200mA, SMD 0201; Manufacturer: Meled; Manufacturer Part Number: MLB0603F-121T; Package Size: 0201; JLCPCB Basic Part: No; JLCPCB Part Number: C2844523; Supplier 1: LCSC; Category: Ferrite Beads; Supplier Part Number 1: C2844523; Tolerance: ±25%; Rated Current: 200mA; DC Resistance: 800mΩ; RoHS: Yes; ComponentLink1Description: Datasheet; ComponentLink1URL: https://wmsc.lcsc.com/wmsc/upload/file/pdf/v2/lcsc/2306021141_MetalLions-MLB0603F-121T_C2844523.pdf; ComponentLink2Description: JLCPCB Part URL; ComponentLink2URL: https://jlcpcb.com/partdetail/C2844523; ComponentLink3Description: LCSC Part URL; ComponentLink3URL: https://lcsc.com/product-detail/Ferrite-Beads_MetalLions-MetalLions-MLB0603F-121T_C2844523.html
footprint FB-0201 (0201 (0603M) Ferrite)
pins: 1, 2

## MMZ0603A241ET000
designator FB?  Impedance @ Frequency: 240Ω@100MHz
Ferrite, 240Ω@100MHz, ±25%, 860mΩ, 200mA, SMD 0201; Manufacturer: TDK; Manufacturer Part Number: MMZ0603A241ET000; Package Size: 0201; JLCPCB Basic Part: No; JLCPCB Part Number: C275393; Supplier 1: LCSC; Category: Ferrite Beads; Supplier Part Number 1: C275393; Tolerance: ±25%; Rated Current: 200mA; DC Resistance: 860mΩ; RoHS: Yes; ComponentLink1Description: Datasheet; ComponentLink1URL: https://wmsc.lcsc.com/wmsc/upload/file/pdf/v2/lcsc/2304140030_TDK-MMZ0603A241ET000_C275393.pdf; ComponentLink2Description: JLCPCB Part URL; ComponentLink2URL: https://jlcpcb.com/partdetail/C275393; ComponentLink3Description: LCSC Part URL; ComponentLink3URL: https://lcsc.com/product-detail/Ferrite-Beads_TDK-TDK-MMZ0603A241ET000_C275393.html
footprint FB-0201 (0201 (0603M) Ferrite)
pins: 1, 2

## MMZ0603A471ET000
designator FB?  Impedance @ Frequency: 470Ω@100MHz
Ferrite, 470Ω@100MHz, ±25%, 1.3Ω, 185mA, SMD 0201; Manufacturer: TDK; Manufacturer Part Number: MMZ0603A471ET000; Package Size: 0201; JLCPCB Basic Part: No; JLCPCB Part Number: C502003; Supplier 1: LCSC; Category: Ferrite Beads; Supplier Part Number 1: C502003; Tolerance: ±25%; Rated Current: 185mA; DC Resistance: 1.3Ω; RoHS: Yes; ComponentLink1Description: Datasheet; ComponentLink1URL: https://wmsc.lcsc.com/wmsc/upload/file/pdf/v2/lcsc/2304140030_TDK-MMZ0603A471ET000_C502003.pdf; ComponentLink2Description: JLCPCB Part URL; ComponentLink2URL: https://jlcpcb.com/partdetail/C502003; ComponentLink3Description: LCSC Part URL; ComponentLink3URL: https://lcsc.com/product-detail/Ferrite-Beads_TDK-TDK-MMZ0603A471ET000_C502003.html
footprint FB-0201 (0201 (0603M) Ferrite)
pins: 1, 2

## MMZ0603D161ET000
designator FB?  Impedance @ Frequency: 160Ω@100MHz
Ferrite, 160Ω@100MHz, ±25%, 2.9Ω, 125mA, SMD 0201; Manufacturer: TDK; Manufacturer Part Number: MMZ0603D161ET000; Package Size: 0201; JLCPCB Basic Part: No; JLCPCB Part Number: C434827; Supplier 1: LCSC; Category: Ferrite Beads; Supplier Part Number 1: C434827; Tolerance: ±25%; Rated Current: 125mA; DC Resistance: 2.9Ω; RoHS: Yes; ComponentLink1Description: Datasheet; ComponentLink1URL: https://wmsc.lcsc.com/wmsc/upload/file/pdf/v2/lcsc/1912111437_TDK-MMZ0603D161ET000_C434827.pdf; ComponentLink2Description: JLCPCB Part URL; ComponentLink2URL: https://jlcpcb.com/partdetail/C434827; ComponentLink3Description: LCSC Part URL; ComponentLink3URL: https://lcsc.com/product-detail/Ferrite-Beads_TDK-TDK-MMZ0603D161ET000_C434827.html
footprint FB-0201 (0201 (0603M) Ferrite)
pins: 1, 2

## MMZ0603F100CT000
designator FB?  Impedance @ Frequency: 10Ω@100MHz
Ferrite, 10Ω@100MHz, 600mΩ, 200mA, SMD 0201; Manufacturer: TDK; Manufacturer Part Number: MMZ0603F100CT000; Package Size: 0201; JLCPCB Basic Part: No; JLCPCB Part Number: C2661533; Supplier 1: LCSC; Category: Ferrite Beads; Supplier Part Number 1: C2661533; Rated Current: 200mA; DC Resistance: 600mΩ; RoHS: Yes; ComponentLink1Description: Datasheet; ComponentLink1URL: https://wmsc.lcsc.com/wmsc/upload/file/pdf/v2/lcsc/2304140030_TDK-MMZ0603F100CT000_C2661533.pdf; ComponentLink2Description: JLCPCB Part URL; ComponentLink2URL: https://jlcpcb.com/partdetail/C2661533; ComponentLink3Description: LCSC Part URL; ComponentLink3URL: https://lcsc.com/product-detail/Ferrite-Beads_TDK-TDK-MMZ0603F100CT000_C2661533.html
pins: 1, 2

## MMZ0603F750ET000
designator FB?  Impedance @ Frequency: 75Ω@100MHz
Ferrite, 75Ω@100MHz, ±25%, 2.6Ω, 125mA, SMD 0201; Manufacturer: TDK; Manufacturer Part Number: MMZ0603F750ET000; Package Size: 0201; JLCPCB Basic Part: No; JLCPCB Part Number: C275396; Supplier 1: LCSC; Category: Ferrite Beads; Supplier Part Number 1: C275396; Tolerance: ±25%; Rated Current: 125mA; DC Resistance: 2.6Ω; RoHS: Yes; ComponentLink1Description: Datasheet; ComponentLink1URL: https://wmsc.lcsc.com/wmsc/upload/file/pdf/v2/lcsc/2401161213_TDK-MMZ0603F750ET000_C275396.pdf; ComponentLink2Description: JLCPCB Part URL; ComponentLink2URL: https://jlcpcb.com/partdetail/C275396; ComponentLink3Description: LCSC Part URL; ComponentLink3URL: https://lcsc.com/product-detail/Ferrite-Beads_TDK-TDK-MMZ0603F750ET000_C275396.html
footprint FB-0201 (0201 (0603M) Ferrite)
pins: 1, 2

## MMZ0603S100CT000
designator FB?  Impedance @ Frequency: 10Ω@100MHz
Ferrite, 10Ω@100MHz, ±25%, 50mΩ, 1A, SMD 0201; Manufacturer: TDK; Manufacturer Part Number: MMZ0603S100CT000; Package Size: 0201; JLCPCB Basic Part: No; JLCPCB Part Number: C275397; Supplier 1: LCSC; Category: Ferrite Beads; Supplier Part Number 1: C275397; Tolerance: ±25%; Rated Current: 1A; DC Resistance: 50mΩ; RoHS: Yes; ComponentLink1Description: Datasheet; ComponentLink1URL: https://wmsc.lcsc.com/wmsc/upload/file/pdf/v2/lcsc/2304140030_TDK-MMZ0603S100CT000_C275397.pdf; ComponentLink2Description: JLCPCB Part URL; ComponentLink2URL: https://jlcpcb.com/partdetail/C275397; ComponentLink3Description: LCSC Part URL; ComponentLink3URL: https://lcsc.com/product-detail/Ferrite-Beads_TDK-TDK-MMZ0603S100CT000_C275397.html
footprint FB-0201 (0201 (0603M) Ferrite)
pins: 1, 2

## MMZ0603S102ET000
designator FB?  Impedance @ Frequency: 1kΩ@100MHz
Ferrite, 1kΩ@100MHz, ±25%, 2.6Ω, 125mA, SMD 0201; Manufacturer: TDK; Manufacturer Part Number: MMZ0603S102ET000; Package Size: 0201; JLCPCB Basic Part: No; JLCPCB Part Number: C275398; Supplier 1: LCSC; Category: Ferrite Beads; Supplier Part Number 1: C275398; Tolerance: ±25%; Rated Current: 125mA; DC Resistance: 2.6Ω; RoHS: Yes; ComponentLink1Description: Datasheet; ComponentLink1URL: https://wmsc.lcsc.com/wmsc/upload/file/pdf/v2/lcsc/2304140030_TDK-MMZ0603S102ET000_C275398.pdf; ComponentLink2Description: JLCPCB Part URL; ComponentLink2URL: https://jlcpcb.com/partdetail/C275398; ComponentLink3Description: LCSC Part URL; ComponentLink3URL: https://lcsc.com/product-detail/Ferrite-Beads_TDK-TDK-MMZ0603S102ET000_C275398.html
footprint FB-0201 (0201 (0603M) Ferrite)
pins: 1, 2

## MMZ0603S102HT000
designator FB?  Impedance @ Frequency: 1kΩ@100MHz
Ferrite, 1kΩ@100MHz, ±25%, 1.25Ω, 200mA, SMD 0201; Manufacturer: TDK; Manufacturer Part Number: MMZ0603S102HT000; Package Size: 0201; JLCPCB Basic Part: No; JLCPCB Part Number: C76800; Supplier 1: LCSC; Category: Ferrite Beads; Supplier Part Number 1: C76800; Tolerance: ±25%; Rated Current: 200mA; DC Resistance: 1.25Ω; RoHS: Yes; ComponentLink1Description: Datasheet; ComponentLink1URL: https://wmsc.lcsc.com/wmsc/upload/file/pdf/v2/lcsc/2304140030_TDK-MMZ0603S102HT000_C76800.pdf; ComponentLink2Description: JLCPCB Part URL; ComponentLink2URL: https://jlcpcb.com/partdetail/C76800; ComponentLink3Description: LCSC Part URL; ComponentLink3URL: https://lcsc.com/product-detail/Ferrite-Beads_TDK-TDK-MMZ0603S102HT000_C76800.html
footprint FB-0201 (0201 (0603M) Ferrite)
pins: 1, 2

## MMZ0603S121CT000
designator FB?  Impedance @ Frequency: 120Ω@100MHz
Ferrite, 120Ω@100MHz, ±25%, 450mΩ, 200mA, SMD 0201; Manufacturer: TDK; Manufacturer Part Number: MMZ0603S121CT000; Package Size: 0201; JLCPCB Basic Part: No; JLCPCB Part Number: C76801; Supplier 1: LCSC; Category: Ferrite Beads; Supplier Part Number 1: C76801; Tolerance: ±25%; Rated Current: 200mA; DC Resistance: 450mΩ; RoHS: Yes; ComponentLink1Description: Datasheet; ComponentLink1URL: https://wmsc.lcsc.com/wmsc/upload/file/pdf/v2/lcsc/2304140030_TDK-MMZ0603S121CT000_C76801.pdf; ComponentLink2Description: JLCPCB Part URL; ComponentLink2URL: https://jlcpcb.com/partdetail/C76801; ComponentLink3Description: LCSC Part URL; ComponentLink3URL: https://lcsc.com/product-detail/Ferrite-Beads_TDK-TDK-MMZ0603S121CT000_C76801.html
footprint FB-0201 (0201 (0603M) Ferrite)
pins: 1, 2

## MMZ0603S241HT000
designator FB?  Impedance @ Frequency: 240Ω@100MHz
Ferrite, 240Ω@100MHz, ±25%, 320mΩ, 420mA, SMD 0201; Manufacturer: TDK; Manufacturer Part Number: MMZ0603S241HT000; Package Size: 0201; JLCPCB Basic Part: No; JLCPCB Part Number: C275403; Supplier 1: LCSC; Category: Ferrite Beads; Supplier Part Number 1: C275403; Tolerance: ±25%; Rated Current: 420mA; DC Resistance: 320mΩ; RoHS: Yes; ComponentLink1Description: Datasheet; ComponentLink1URL: https://wmsc.lcsc.com/wmsc/upload/file/pdf/v2/lcsc/2304140030_TDK-MMZ0603S241HT000_C275403.pdf; ComponentLink2Description: JLCPCB Part URL; ComponentLink2URL: https://jlcpcb.com/partdetail/C275403; ComponentLink3Description: LCSC Part URL; ComponentLink3URL: https://lcsc.com/product-detail/Ferrite-Beads_TDK-TDK-MMZ0603S241HT000_C275403.html
footprint FB-0201 (0201 (0603M) Ferrite)
pins: 1, 2

## MMZ0603S471HT000
designator FB?  Impedance @ Frequency: 470Ω@100MHz
Ferrite, 470Ω@100MHz, ±25%, 650mΩ, 310mA, SMD 0201; Manufacturer: TDK; Manufacturer Part Number: MMZ0603S471HT000; Package Size: 0201; JLCPCB Basic Part: No; JLCPCB Part Number: C307755; Supplier 1: LCSC; Category: Ferrite Beads; Supplier Part Number 1: C307755; Tolerance: ±25%; Rated Current: 310mA; DC Resistance: 650mΩ; RoHS: Yes; ComponentLink1Description: Datasheet; ComponentLink1URL: https://wmsc.lcsc.com/wmsc/upload/file/pdf/v2/lcsc/1810291722_TDK-MMZ0603S471HT000_C307755.pdf; ComponentLink2Description: JLCPCB Part URL; ComponentLink2URL: https://jlcpcb.com/partdetail/C307755; ComponentLink3Description: LCSC Part URL; ComponentLink3URL: https://lcsc.com/product-detail/Ferrite-Beads_TDK-TDK-MMZ0603S471HT000_C307755.html
footprint FB-0201 (0201 (0603M) Ferrite)
pins: 1, 2

## MMZ0603S601ET000
designator FB?  Impedance @ Frequency: 600Ω@100MHz
Ferrite, 600Ω@100MHz, ±25%, 1.6Ω, 150mA, SMD 0201; Manufacturer: TDK; Manufacturer Part Number: MMZ0603S601ET000; Package Size: 0201; JLCPCB Basic Part: No; JLCPCB Part Number: C275405; Supplier 1: LCSC; Category: Ferrite Beads; Supplier Part Number 1: C275405; Tolerance: ±25%; Rated Current: 150mA; DC Resistance: 1.6Ω; RoHS: Yes; ComponentLink1Description: Datasheet; ComponentLink1URL: https://wmsc.lcsc.com/wmsc/upload/file/pdf/v2/lcsc/1810311723_TDK-MMZ0603S601ET000_C275405.pdf; ComponentLink2Description: JLCPCB Part URL; ComponentLink2URL: https://jlcpcb.com/partdetail/C275405; ComponentLink3Description: LCSC Part URL; ComponentLink3URL: https://lcsc.com/product-detail/Ferrite-Beads_TDK-TDK-MMZ0603S601ET000_C275405.html
footprint FB-0201 (0201 (0603M) Ferrite)
pins: 1, 2

## MMZ0603S601HT000
designator FB?  Impedance @ Frequency: 600Ω@100MHz
Ferrite, 600Ω@100MHz, ±25%, 750mΩ, 280mA, SMD 0201; Manufacturer: TDK; Manufacturer Part Number: MMZ0603S601HT000; Package Size: 0201; JLCPCB Basic Part: No; JLCPCB Part Number: C880716; Supplier 1: LCSC; Category: Ferrite Beads; Supplier Part Number 1: C880716; Tolerance: ±25%; Rated Current: 280mA; DC Resistance: 750mΩ; RoHS: Yes; ComponentLink1Description: Datasheet; ComponentLink1URL: https://wmsc.lcsc.com/wmsc/upload/file/pdf/v2/lcsc/2010170835_TDK-MMZ0603S601HT000_C880716.pdf; ComponentLink2Description: JLCPCB Part URL; ComponentLink2URL: https://jlcpcb.com/partdetail/C880716; ComponentLink3Description: LCSC Part URL; ComponentLink3URL: https://lcsc.com/product-detail/Ferrite-Beads_TDK-TDK-MMZ0603S601HT000_C880716.html
footprint FB-0201 (0201 (0603M) Ferrite)
pins: 1, 2